# Altium footprint library SOT-89.PcbLib: 1 footprints
Each footprint in its own frame and in the unit in brackets; x right, y up, seen from the top. Pads: shape width x height; smd on the part's side, far side on the other; paste and mask are expansions set on the pad; w line width, h text height; cw(c..) or ccw(c..) is an arc to the next point about the centre after c.
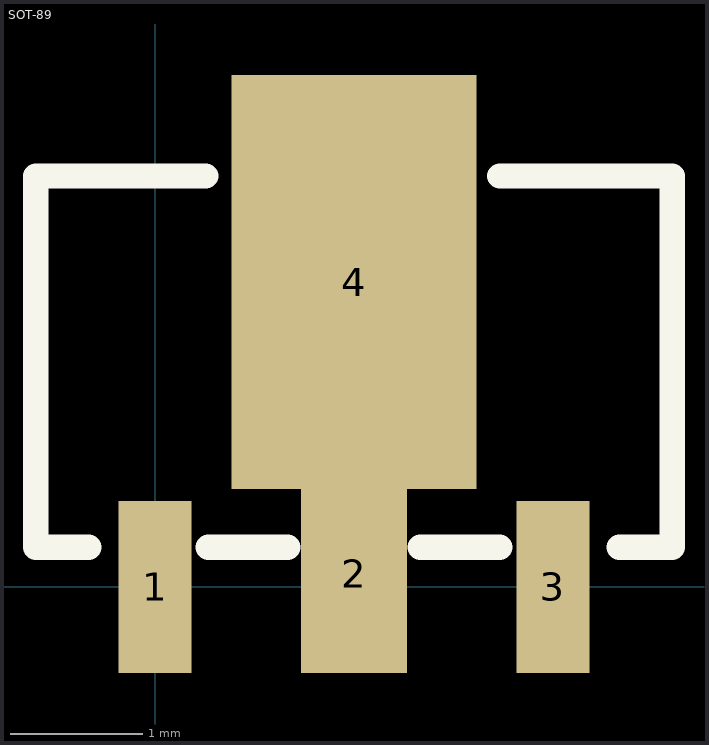
[diagram p0: the footprint, top view; thin cyan lines are the x and y axes]

## SOT-89 [mm]
pads (4):
  rect 0.55x1.3 smd: 1(0,0) 3(3,0)
  rect 0.8x1.5 smd: 2(1.5,0.1)
  rect 1.85x3.125 smd: 4(1.5,2.3)
Top Overlay:
  lines w0.191: -0.5,0.3 -0.9,0.3 -0.9,3.1 0.381,3.1 ; 0.4,0.3 1,0.3 ; 2,0.3 2.6,0.3 ; 2.6,3.1 3.9,3.1 3.9,0.3 3.5,0.3
3D body "SOT-89-3.STEP": height 1.5, standoff -0.04, extent -0.75,-0.55 3.75,3.7